# EAGLE library part MC3419 (library ELEC327 copy)
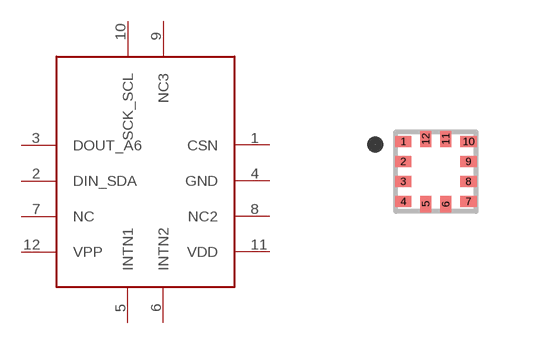
[diagram p7: symbol with the pads of IC_MXC6655XA; footprint IC_MXC6655XA]

Designator prefix -

## MC3419VFLGA-12  [IC_MXC6655XA]
1  CSN  pas
2  DIN_SDA  pas
3  DOUT_A6  pas
4  GND  pas
5  INTN1  pas
6  INTN2  pas
7  NC  pas
8  NC2  nc
9  NC3  nc
10  SCK_SCL  pas
11  VDD  pas
12  VPP  pas

## Footprint IC_MXC6655XA (pad centres in mm)
smd 0.41 x 0.28: 1 -0.815,0.75; 2 -0.815,0.25; 3 -0.815,-0.25; 4 -0.815,-0.75; 7 0.815,-0.75; 8 0.815,-0.25; 9 0.815,0.25; 10 0.815,0.75
smd 0.28 x 0.41: 5 -0.25,-0.815; 6 0.25,-0.815; 11 0.25,0.815; 12 -0.25,0.815